# EAGLE library part TM4C123AH6PM (library ti-tiva)
ARM MICROCONTROLLER
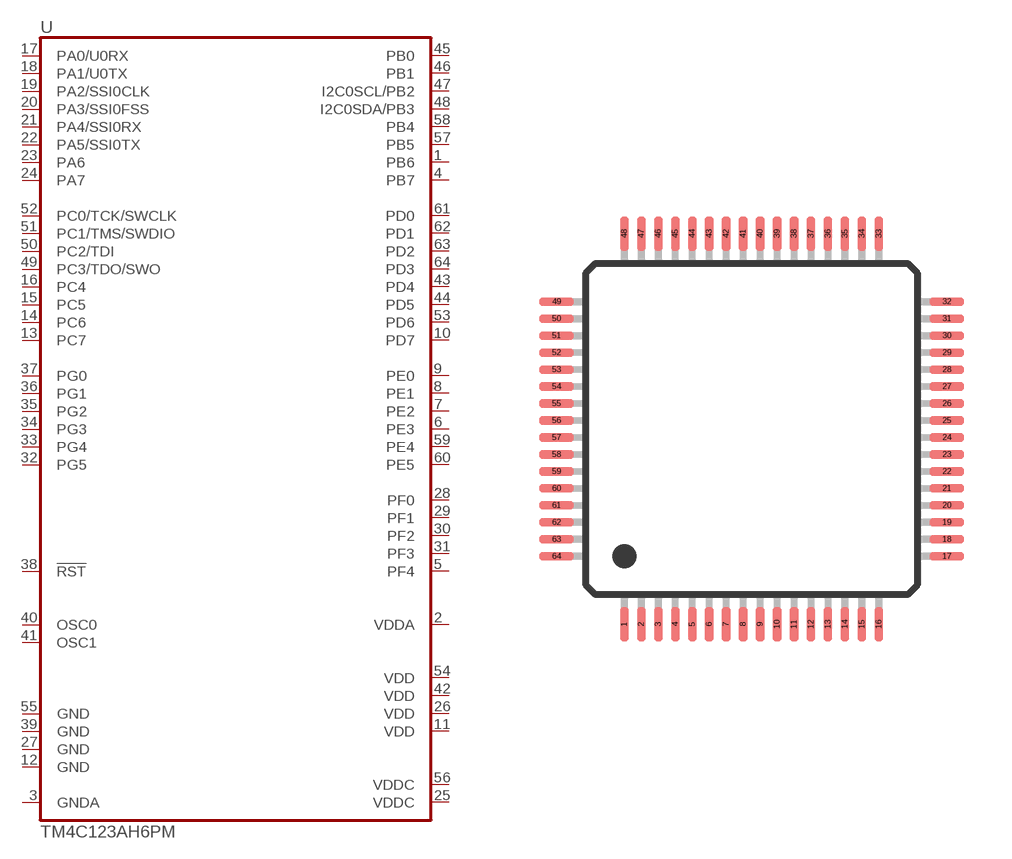
[diagram p1: symbol with the pads of LQFP64; footprint LQFP64]

Designator prefix U

## TM4C123AH6PM  [LQFP64]
1  PB6
2  VDDA  pwr
3  GNDA  pwr
4  PB7
5  PF4
6  PE3
7  PE2
8  PE1
9  PE0
10  PD7
11  VDD  pwr
12  GND  pwr
13  PC7
14  PC6
15  PC5
16  PC4
17  PA0/U0RX
18  PA1/U0TX
19  PA2/SSI0CLK
20  PA3/SSI0FSS
21  PA4/SSI0RX
22  PA5/SSI0TX
23  PA6
24  PA7
25  VDDC  pwr
26  VDD  pwr
27  GND  pwr
28  PF0
29  PF1
30  PF2
31  PF3
32  PG5
33  PG4
34  PG3
35  PG2
36  PG1
37  PG0
38  !RST!  pas
39  GND  pwr
40  OSC0  pas
41  OSC1  pas
42  VDD  pwr
43  PD4
44  PD5
45  PB0
46  PB1
47  I2C0SCL/PB2
48  I2C0SDA/PB3
49  PC3/TDO/SWO  out
50  PC2/TDI  in
51  PC1/TMS/SWDIO  in
52  PC0/TCK/SWCLK  in
53  PD6
54  VDD  pwr
55  GND  pwr
56  VDDC  pwr
57  PB5
58  PB4
59  PE4
60  PE5
61  PD0
62  PD1
63  PD2
64  PD3

## Footprint LQFP64 (pad centres in mm)
LQFP64
smd 0.25 x 1: 1 -3.75,-5.75; 2 -3.25,-5.75; 3 -2.75,-5.75; 4 -2.25,-5.75; 5 -1.75,-5.75; 6 -1.25,-5.75; 7 -0.75,-5.75; 8 -0.25,-5.75; 9 0.25,-5.75; 10 0.75,-5.75; 11 1.25,-5.75; 12 1.75,-5.75; 13 2.25,-5.75; 14 2.75,-5.75; 15 3.25,-5.75; 16 3.75,-5.75; 33 3.75,5.75; 34 3.25,5.75; 35 2.75,5.75; 36 2.25,5.75; 37 1.75,5.75; 38 1.25,5.75; 39 0.75,5.75; 40 0.25,5.75; 41 -0.25,5.75; 42 -0.75,5.75; 43 -1.25,5.75; 44 -1.75,5.75; 45 -2.25,5.75; 46 -2.75,5.75; 47 -3.25,5.75; 48 -3.75,5.75
smd 1 x 0.25: 17 5.75,-3.75; 18 5.75,-3.25; 19 5.75,-2.75; 20 5.75,-2.25; 21 5.75,-1.75; 22 5.75,-1.25; 23 5.75,-0.75; 24 5.75,-0.25; 25 5.75,0.25; 26 5.75,0.75; 27 5.75,1.25; 28 5.75,1.75; 29 5.75,2.25; 30 5.75,2.75; 31 5.75,3.25; 32 5.75,3.75; 49 -5.75,3.75; 50 -5.75,3.25; 51 -5.75,2.75; 52 -5.75,2.25; 53 -5.75,1.75; 54 -5.75,1.25; 55 -5.75,0.75; 56 -5.75,0.25; 57 -5.75,-0.25; 58 -5.75,-0.75; 59 -5.75,-1.25; 60 -5.75,-1.75; 61 -5.75,-2.25; 62 -5.75,-2.75; 63 -5.75,-3.25; 64 -5.75,-3.75